# EAGLE library part BOB_LM3S608_OVAL (library CEDTv79)
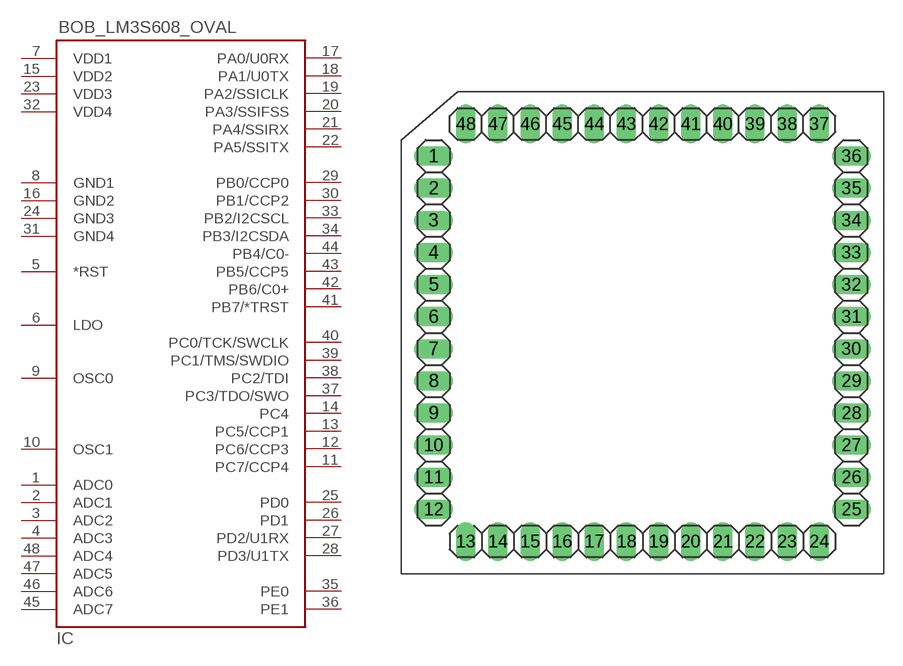
[diagram p43: symbol with the pads of BOB_LQFP48_OVAL; footprint BOB_LQFP48_OVAL]

Designator prefix IC

## BOB_LM3S608_OVAL  [BOB_LQFP48_OVAL]
1  ADC0  pas
2  ADC1  pas
3  ADC2  pas
4  ADC3  pas
5  *RST  pas
6  LDO  pas
7  VDD1  pas
8  GND1  pas
9  OSC0  pas
10  OSC1  pas
11  PC7/CCP4  pas
12  PC6/CCP3  pas
13  PC5/CCP1  pas
14  PC4  pas
15  VDD2  pas
16  GND2  pas
17  PA0/U0RX  pas
18  PA1/U0TX  pas
19  PA2/SSICLK  pas
20  PA3/SSIFSS  pas
21  PA4/SSIRX  pas
22  PA5/SSITX  pas
23  VDD3  pas
24  GND3  pas
25  PD0  pas
26  PD1  pas
27  PD2/U1RX  pas
28  PD3/U1TX  pas
29  PB0/CCP0  pas
30  PB1/CCP2  pas
31  GND4  pas
32  VDD4  pas
33  PB2/I2CSCL  pas
34  PB3/I2CSDA  pas
35  PE0  pas
36  PE1  pas
37  PC3/TDO/SWO  pas
38  PC2/TDI  pas
39  PC1/TMS/SWDIO  pas
40  PC0/TCK/SWCLK  pas
41  PB7/*TRST  pas
42  PB6/C0+  pas
43  PB5/CCP5  pas
44  PB4/C0-  pas
45  ADC7  pas
46  ADC6  pas
47  ADC5  pas
48  ADC4  pas

## Footprint BOB_LQFP48_OVAL (pad centres in mm)
48-pin Low Profile Quad Flat Pack
drill 1.016 long: 1 -15.24,12.7; 2 -15.24,10.16; 3 -15.24,7.62; 4 -15.24,5.08; 5 -15.24,2.54; 6 -15.24,0; 7 -15.24,-2.54; 8 -15.24,-5.08; 9 -15.24,-7.62; 10 -15.24,-10.16; 11 -15.24,-12.7; 12 -15.24,-15.24; 13 -12.7,-17.78; 14 -10.16,-17.78; 15 -7.62,-17.78; 16 -5.08,-17.78; 17 -2.54,-17.78; 18 0,-17.78; 19 2.54,-17.78; 20 5.08,-17.78; 21 7.62,-17.78; 22 10.16,-17.78; 23 12.7,-17.78; 24 15.24,-17.78; 25 17.78,-15.24; 26 17.78,-12.7; 27 17.78,-10.16; 28 17.78,-7.62; 29 17.78,-5.08; 30 17.78,-2.54; 31 17.78,0; 32 17.78,2.54; 33 17.78,5.08; 34 17.78,7.62; 35 17.78,10.16; 36 17.78,12.7; 37 15.24,15.24; 38 12.7,15.24; 39 10.16,15.24; 40 7.62,15.24; 41 5.08,15.24; 42 2.54,15.24; 43 0,15.24; 44 -2.54,15.24; 45 -5.08,15.24; 46 -7.62,15.24; 47 -10.16,15.24; 48 -12.7,15.24